# EAGLE library part SX1272IMLTRT (library SX1272IMLTRT)
SX1272 Series 860-1020 MHz 300 kbps Low Power Long Range Transceiver - QFN-28EP Check availability <https://pricing.snapeda.com/parts/SX1272IMLTRT/Semtech/view-part?ref=eda>
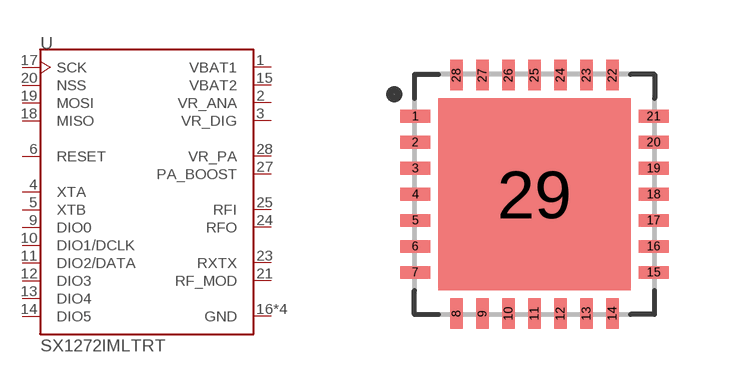
[diagram p0: symbol with the pads of QFN65P600X600X100-29N; footprint QFN65P600X600X100-29N]

Designator prefix U

## SX1272IMLTRT (AVAILABILITY: In Stock; CHECK_PRICES: https://www.snapeda.com/parts/SX1272IMLTRT/Semtech+Corporation/view-part/?ref=eda; DESCRIPTION: IC RF TxRx Only 802.15.4 LoRa™ 860MHz ~ 1.02GHz 28-VQFN Exposed Pad; MF: Semtech; MP: SX1272IMLTRT; PACKAGE: VQFN-28 Semtech; PRICE: None; PURCHASE-URL: https://www.snapeda.com/api/url_track_click_mouser/?unipart_id=227639&manufacturer=Semtech&part_name=SX1272IMLTRT&search_term=None; SNAPEDA_LINK: https://www.snapeda.com/parts/SX1272IMLTRT/Semtech+Corporation/view-part/?ref=snap)  [QFN65P600X600X100-29N]
1  VBAT1  pwr
2  VR_ANA  pwr
3  VR_DIG  pwr
4  XTA
5  XTB
6  RESET
9  DIO0
10  DIO1/DCLK
11  DIO2/DATA
12  DIO3
13  DIO4
14  DIO5
15  VBAT2  pwr
16  GND  pwr
17  SCK  in
18  MISO  out
19  MOSI  in
20  NSS  in
21  RF_MOD  out
22  GND  pwr
23  RXTX  out
24  RFO  out
25  RFI  in
26  GND  pwr
27  PA_BOOST  out
28  VR_PA  out
29  GND  pwr

## Footprint QFN65P600X600X100-29N (pad centres in mm)
smd 0.76 x 0.32: 1 -2.98,1.95; 2 -2.98,1.3; 3 -2.98,0.65; 4 -2.98,0; 5 -2.98,-0.65; 6 -2.98,-1.3; 7 -2.98,-1.95; 15 2.98,-1.95; 16 2.98,-1.3; 17 2.98,-0.65; 18 2.98,0; 19 2.98,0.65; 20 2.98,1.3; 21 2.98,1.95
smd 0.32 x 0.76: 8 -1.95,-2.98; 9 -1.3,-2.98; 10 -0.65,-2.98; 11 0,-2.98; 12 0.65,-2.98; 13 1.3,-2.98; 14 1.95,-2.98; 22 1.95,2.98; 23 1.3,2.98; 24 0.65,2.98; 25 0,2.98; 26 -0.65,2.98; 27 -1.3,2.98; 28 -1.95,2.98
smd 4.8 x 4.8: 29 0,0